# Altium footprint library 74.PcbLib: 5 footprints
Each footprint in its own frame and in the unit in brackets; x right, y up, seen from the top. Pads: shape width x height; smd on the part's side, far side on the other; paste and mask are expansions set on the pad; w line width, h text height; cw(c..) or ccw(c..) is an arc to the next point about the centre after c.
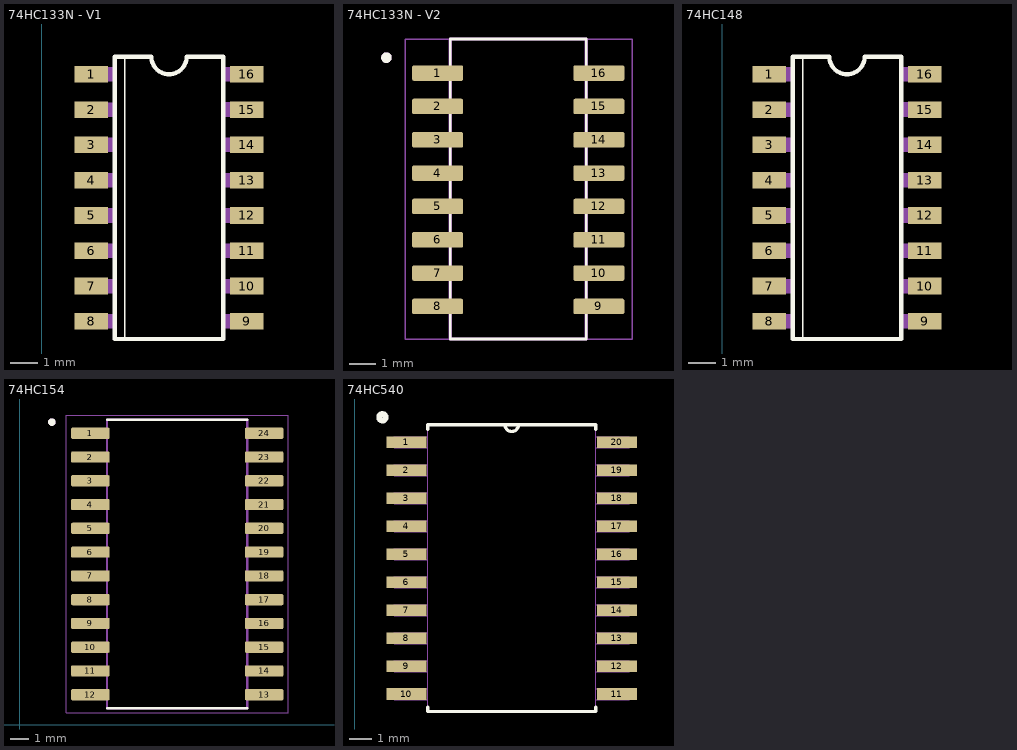
[diagram p0: the footprints below, top view; thin cyan lines are the x and y axes]

## 74HC133N - V1 [mm] "13 bit input NAND Gate"
pads (16):
  rect 1.2x0.6 smd: 1(1.772,10.922) 2(1.772,9.652) 3(1.772,8.382) 4(1.772,7.112) 5(1.772,5.842) 6(1.772,4.572) 7(1.772,3.302) 8(1.772,2.032) 9(7.372,2.032) 10(7.372,3.302) 11(7.372,4.572) 12(7.372,5.842) 13(7.372,7.112) 14(7.372,8.382) 15(7.372,9.652) 16(7.372,10.922)
Top Overlay:
  lines w0.051: 2.972,1.397 2.972,11.557
  lines w0.152: 2.616,1.397 6.528,1.397 6.528,11.557 5.207,11.557 cw(c4.572,11.557) 3.937,11.557 2.616,11.557 2.616,1.397
Mechanical 13:
  region: 6.529,1.778 6.529,2.284 7.671,2.284 7.671,1.778
  region: 6.532,3.048 6.532,3.55 7.671,3.55 7.671,3.048
  region: 6.531,4.318 6.531,4.823 7.671,4.823 7.671,4.318
  region: 6.529,5.588 6.529,6.096 7.671,6.096 7.671,5.588
  region: 1.472,1.778 1.472,2.284 2.616,2.284 2.616,1.778
  region: 1.472,3.048 1.472,3.555 2.616,3.555 2.616,3.048
  region: 1.471,4.318 1.471,4.825 2.616,4.825 2.616,4.318
  region: 1.472,5.588 1.472,6.096 2.616,6.096 2.616,5.588
  region: 6.53,10.668 6.53,11.18 7.671,11.18 7.671,10.668
  region: 6.529,9.398 6.529,9.908 7.671,9.908 7.671,9.398
  region: 6.529,8.128 6.529,8.637 7.671,8.637 7.671,8.128
  region: 1.467,6.858 1.467,7.368 2.616,7.368 2.616,6.858
  region: 1.498,8.128 1.498,8.636 2.642,8.636 2.642,8.128
  region: 1.473,9.398 1.473,9.906 2.616,9.906 2.616,9.398
  region: 1.472,10.668 1.472,11.177 2.616,11.177 2.616,10.668
  region: 6.531,6.858 6.531,7.367 7.671,7.367 7.671,6.858
3D body "NXP SO16 SOT109-1.SLDPRT": height 1.48, standoff 0, extent 1.529,1.524 7.564,11.424

## 74HC133N - V2 [mm] "13 bit input NAND Gate"
pads (16):
  rrect25% 1.95x0.59 smd: 1(19.103,27.529) 2(19.103,26.259) 3(19.103,24.989) 4(19.103,23.719) 5(19.103,22.449) 6(19.103,21.179) 7(19.103,19.909) 8(19.103,18.639) 9(25.248,18.639) 10(25.248,19.909) 11(25.248,21.179) 12(25.248,22.449) 13(25.248,23.719) 14(25.248,24.989) 15(25.248,26.259) 16(25.248,27.529)
Top Overlay:
  circle w0.2: c17.153,28.119 r0.1
  lines w0.1: 19.583,17.399 19.583,28.829 24.765,28.829 24.765,17.399 19.583,17.399
Mechanical 13:
  circle w0.2: c17.153,28.119 r0.1
  lines w0.127: 19.583,17.399 24.765,17.399 24.765,28.829 19.583,28.829 19.583,17.399
Mechanical 15:
  lines w0.05: 17.878,17.399 26.518,17.399 26.518,28.829 17.878,28.829 17.878,17.399
3D body "SO16NB.step": height 1.7, standoff 0, extent 18.689,17.374 25.609,28.804

## 74HC148 [mm] "Encoder 8 to 3"
pads (16):
  rect 1.2x0.6 smd: 1(1.696,10.236) 2(1.696,8.966) 3(1.696,7.696) 4(1.696,6.426) 5(1.696,5.156) 6(1.696,3.886) 7(1.696,2.616) 8(1.696,1.346) 9(7.296,1.346) 10(7.296,2.616) 11(7.296,3.886) 12(7.296,5.156) 13(7.296,6.426) 14(7.296,7.696) 15(7.296,8.966) 16(7.296,10.236)
Top Overlay:
  lines w0.051: 2.896,0.711 2.896,10.871
  lines w0.152: 2.54,0.711 2.54,10.871 3.861,10.871 ccw(c4.496,10.871) 5.131,10.871 6.452,10.871 6.452,0.711 2.54,0.711
Mechanical 13:
  region: 6.454,6.172 6.454,6.681 7.595,6.681 7.595,6.172
  region: 1.396,9.982 1.396,10.492 2.54,10.492 2.54,9.982
  region: 1.397,8.712 1.397,9.221 2.54,9.221 2.54,8.712
  region: 1.422,7.442 1.422,7.951 2.565,7.951 2.565,7.442
  region: 1.391,6.172 1.391,6.682 2.54,6.682 2.54,6.172
  region: 6.453,7.442 6.453,7.951 7.595,7.951 7.595,7.442
  region: 6.453,8.712 6.453,9.223 7.595,9.223 7.595,8.712
  region: 6.453,9.982 6.453,10.494 7.595,10.494 7.595,9.982
  region: 1.396,4.902 1.396,5.41 2.54,5.41 2.54,4.902
  region: 1.395,3.632 1.395,4.139 2.54,4.139 2.54,3.632
  region: 1.395,2.362 1.395,2.869 2.54,2.869 2.54,2.362
  region: 1.395,1.092 1.395,1.598 2.54,1.598 2.54,1.092
  region: 6.452,4.902 6.452,5.41 7.595,5.41 7.595,4.902
  region: 6.455,3.632 6.455,4.138 7.595,4.138 7.595,3.632
  region: 6.455,2.362 6.455,2.864 7.595,2.864 7.595,2.362
  region: 6.452,1.092 6.452,1.598 7.595,1.598 7.595,1.092
3D body "NXP SO16 SOT109-1.SLDPRT": height 1.48, standoff 0, extent 1.453,0.838 7.488,10.738

## 74HC154 [mm] "Decoder 4 to 16"
pads (24):
  rrect25% 2.06x0.6 smd: 1(3.774,15.582) 2(3.774,14.312) 3(3.774,13.042) 4(3.774,11.772) 5(3.774,10.502) 6(3.774,9.232) 7(3.774,7.962) 8(3.774,6.692) 9(3.774,5.422) 10(3.774,4.152) 11(3.774,2.882) 12(3.774,1.612) 13(13.054,1.612) 14(13.054,2.882) 15(13.054,4.152) 16(13.054,5.422) 17(13.054,6.692) 18(13.054,7.962) 19(13.054,9.232) 20(13.054,10.502) 21(13.054,11.772) 22(13.054,13.042) 23(13.054,14.312) 24(13.054,15.582)
Top Overlay:
  circle w0.2: c1.714,16.182 r0.1
  lines w0.127: 4.664,0.897 12.164,0.897 ; 4.664,16.297 12.164,16.297
Mechanical 13:
  circle w0.2: c1.714,16.182 r0.1
  lines w0.127: 4.664,0.897 4.664,16.297 12.164,16.297 12.164,0.897 4.664,0.897
Mechanical 15:
  lines w0.05: 2.494,0.647 2.494,16.547 14.334,16.547 14.334,0.647 2.494,0.647
3D body "step_temp.STEP": height 2.65, standoff 0, extent 3.264,0.897 13.564,16.297

## 74HC540 [mil] "3 state inverting Buffer"
pads (20):
  rect 71x21 smd: 1(92,515) 2(92,465) 3(92,415) 4(92,365) 5(92,315) 6(92,265) 7(92,215) 8(92,165) 9(92,115) 10(92,65) 11(468,65) 12(468,115) 13(468,165) 14(468,215) 15(468,265) 16(468,315) 17(468,365) 18(468,415) 19(468,465) 20(468,515)
Top Overlay:
  circle w10: c49,559.5 r5.83
  lines w6: 130,42 130,34 430,34 430,42 ; 130,538 130,546 268,546 ; 430,538 430,546 292,546 ; 268,546 ccw(c280,546) 292,546 ; 268,546 292,546
Mechanical 13:
  lines w0: 268,546 ccw(c280,546) 292,546 ; 268,546 292,546 ; 268,546 130,546 130,34 430,34 430,546 292,546 ; 70,55 70,75 130,75 130,55 70,55 ; 70,105 70,125 130,125 130,105 70,105 ; 70,155 70,175 130,175 130,155 70,155 ; 70,205 70,225 130,225 130,205 70,205 ; 70,255 70,275 130,275 130,255 70,255 ; 70,305 70,325 130,325 130,305 70,305 ; 70,355 70,375 130,375 130,355 70,355 ; 70,405 70,425 130,425 130,405 70,405 ; 70,455 70,475 130,475 130,455 70,455 ; 70,505 70,525 130,525 130,505 70,505 ; 430,55 430,75 490,75 490,55 430,55 ; 430,105 430,125 490,125 490,105 430,105 ; 430,155 430,175 490,175 490,155 430,155 ; 430,205 430,225 490,225 490,205 430,205 ; 430,255 430,275 490,275 490,255 430,255 ; 430,305 430,325 490,325 490,305 430,305 ; 430,355 430,375 490,375 490,355 430,355 ; 430,405 430,425 490,425 490,405 430,405 ; 430,455 430,475 490,475 490,455 430,455 ; 430,505 430,525 490,525 490,505 430,505
3D body "540.STEP": height 104.33, standoff 0, extent 75.5,37.56 482,541.5